# EAGLE library part LM25010 (library RoboJackets-PowerICs)
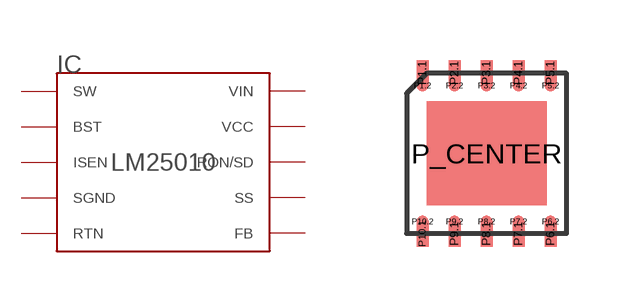
[diagram p3: symbol with the pads of 10-WDFN; footprint 10-WDFN]

Designator prefix IC

## LM25010  [10-WDFN]
P1.1  SW
P1.2  SW
P2.1  BST
P2.2  BST
P3.1  ISEN
P3.2  ISEN
P4.1  SGND
P4.2  SGND
P5.1  RTN
P5.2  RTN
P6.1  FB
P6.2  FB
P7.1  SS
P7.2  SS
P8.1  RON/SD
P8.2  RON/SD
P9.1  VCC
P9.2  VCC
P10.1  VIN
P10.2  VIN
P_CENTER  SGND

## Footprint 10-WDFN (pad centres in mm)
smd 0.3 x 0.65: P1.1 -1.6,2.01; P2.1 -0.8,2.01; P3.1 0,2.01; P4.1 0.8,2.01; P5.1 1.6,2.01; P6.1 1.6,-2.01; P7.1 0.8,-2.01; P8.1 0,-2.01; P9.1 -0.8,-2.01; P10.1 -1.6,-2.01
smd 0.3 x 0.3: P1.2 -1.6,1.7; P2.2 -0.8,1.7; P3.2 0,1.7; P4.2 0.8,1.7; P5.2 1.6,1.7; P6.2 1.6,-1.7; P7.2 0.8,-1.7; P8.2 0,-1.7; P9.2 -0.8,-1.7; P10.2 -1.6,-1.7
smd 3 x 2.6: P_CENTER 0,0